# Altium schematic symbol library TPS564242DRLR.SchLib: 2 symbols
Pins are listed as number, name and electrical type; pins without a type are passive.

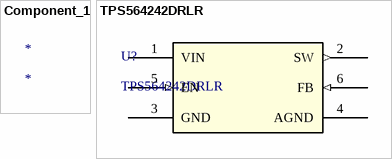
[diagram p0: symbols Component_1 to TPS564242DRLR]

## Component_1
designator *

## TPS564242DRLR
designator U?
No Description Available; Mfr_Name: Texas Instruments; Copyright: Copyright (C) 2023 Ultra Librarian. All rights reserved.; Manufacturer_Part_Number: TPS564242DRLR; RefDes: RefDes; Type: DEV
footprint TPS564242DRLR_TEX
pins: 1 VIN (power), 2 SW (out), 3 GND (power), 4 AGND (power), 5 EN (in), 6 FB (in)